# EAGLE library part MSP430F (library Nick'sEagle)
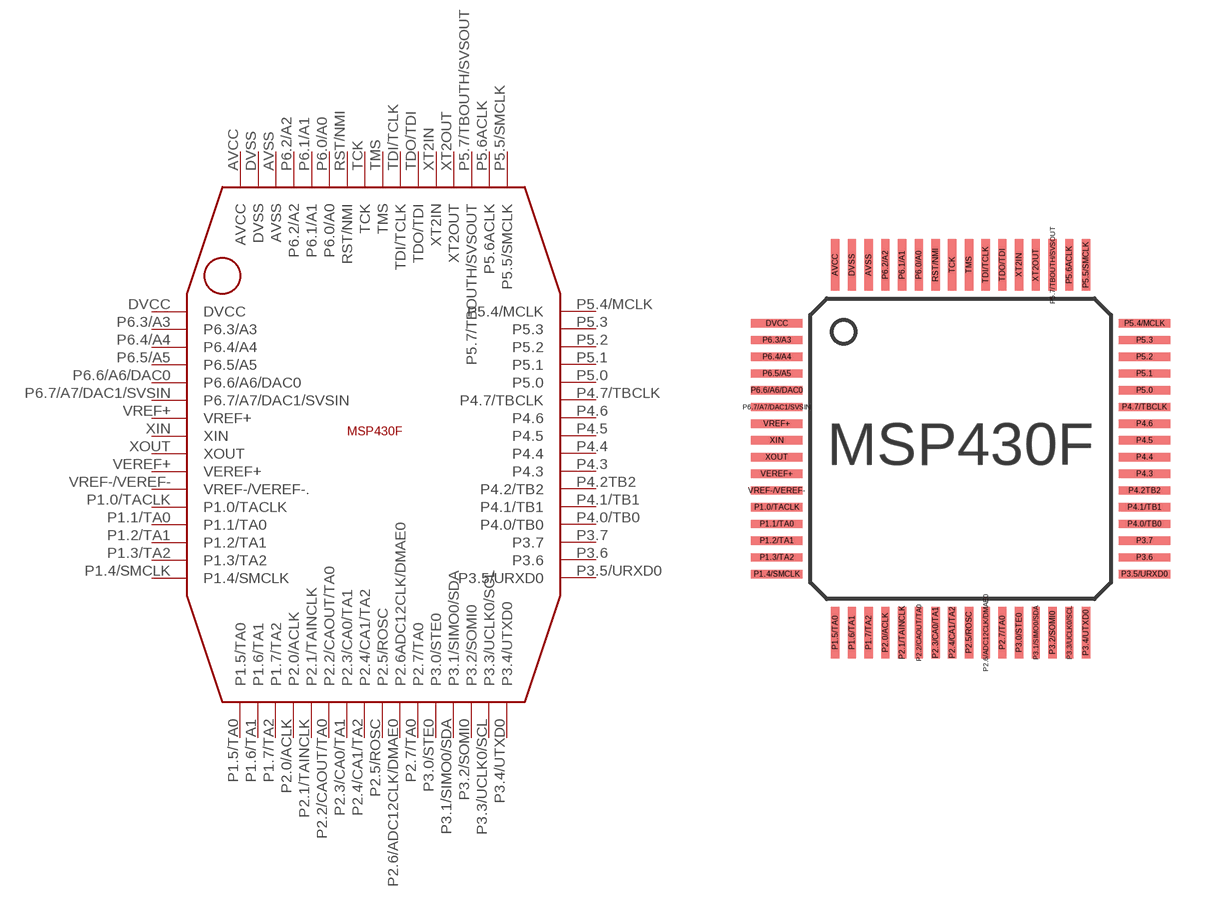
[diagram p2: symbol with the pads of MSP430F; footprint MSP430F]

Designator prefix -

## MSP430F  [MSP430F]
AVCC  AVCC
AVSS  AVSS
DVCC  DVCC
DVSS  DVSS
P1.0/TACLK  P1.0/TACLK
P1.1/TA0  P1.1/TA0
P1.2/TA1  P1.2/TA1
P1.3/TA2  P1.3/TA2
P1.4/SMCLK  P1.4/SMCLK
P1.5/TA0  P1.5/TA0
P1.6/TA1  P1.6/TA1
P1.7/TA2  P1.7/TA2
P2.0/ACLK  P2.0/ACLK
P2.1/TAINCLK  P2.1/TAINCLK
P2.2/CAOUT/TA0  P2.2/CAOUT/TA0
P2.3/CA0/TA1  P2.3/CA0/TA1
P2.4/CA1/TA2  P2.4/CA1/TA2
P2.5/ROSC  P2.5/ROSC
P2.6/ADC12CLK/DMAE0  P2.6ADC12CLK/DMAE0
P2.7/TA0  P2.7/TA0
P3.0/STE0  P3.0/STE0
P3.1/SIMO0/SDA  P3.1/SIMO0/SDA
P3.2/SOMI0  P3.2/SOMI0
P3.3/UCLK0/SCL  P3.3/UCLK0/SCL
P3.4/UTXD0  P3.4/UTXD0
P3.5/URXD0  P3.5/URXD0
P3.6  P3.6
P3.7  P3.7
P4.0/TB0  P4.0/TB0
P4.1/TB1  P4.1/TB1
P4.2TB2  P4.2/TB2
P4.3  P4.3
P4.4  P4.4
P4.5  P4.5
P4.6  P4.6
P4.7/TBCLK  P4.7/TBCLK
P5.0  P5.0
P5.1  P5.1
P5.2  P5.2
P5.3  P5.3
P5.4/MCLK  P5.4/MCLK
P5.5/SMCLK  P5.5/SMCLK
P5.6ACLK  P5.6ACLK
P5.7/TBOUTH/SVSOUT  P5.7/TBOUTH/SVSOUT
P6.0/A0  P6.0/A0
P6.1/A1  P6.1/A1
P6.2/A2  P6.2/A2
P6.3/A3  P6.3/A3
P6.4/A4  P6.4/A4
P6.5/A5  P6.5/A5
P6.6/A6/DAC0  P6.6/A6/DAC0
P6.7/A7/DAC1/SVSIN  P6.7/A7/DAC1/SVSIN
RST/NMI  RST/NMI
TCK  TCK
TDI/TCLK  TDI/TCLK
TDO/TDI  TDO/TDI
TMS  TMS
VEREF+  VEREF+
VREF+  VREF+
VREF-/VEREF-  VREF-/VEREF-.
XIN  XIN
XOUT  XOUT
XT2IN  XT2IN
XT2OUT  XT2OUT

## Footprint MSP430F (pad centres in mm)
smd 0.25 x 1.55: AVCC -3.75,5.5; AVSS -2.75,5.5; DVSS -3.25,5.5; P1.5/TA0 -3.75,-5.5; P1.6/TA1 -3.25,-5.5; P1.7/TA2 -2.75,-5.5; P2.0/ACLK -2.25,-5.5; P2.1/TAINCLK -1.75,-5.5; P2.2/CAOUT/TA0 -1.25,-5.5; P2.3/CA0/TA1 -0.75,-5.5; P2.4/CA1/TA2 -0.25,-5.5; P2.5/ROSC 0.25,-5.5; P2.6/ADC12CLK/DMAE0 0.75,-5.5; P2.7/TA0 1.25,-5.5; P3.0/STE0 1.75,-5.5; P3.1/SIMO0/SDA 2.25,-5.5; P3.2/SOMI0 2.75,-5.5; P3.3/UCLK0/SCL 3.25,-5.5; P3.4/UTXD0 3.75,-5.5; P5.5/SMCLK 3.75,5.5; P5.6ACLK 3.25,5.5; P5.7/TBOUTH/SVSOUT 2.75,5.5; P6.0/A0 -1.25,5.5; P6.1/A1 -1.75,5.5; P6.2/A2 -2.25,5.5; RST/NMI -0.75,5.5; TCK -0.25,5.5; TDI/TCLK 0.75,5.5; TDO/TDI 1.25,5.5; TMS 0.25,5.5; XT2IN 1.75,5.5; XT2OUT 2.25,5.5
smd 1.55 x 0.25: DVCC -5.5,3.75; P1.0/TACLK -5.5,-1.75; P1.1/TA0 -5.5,-2.25; P1.2/TA1 -5.5,-2.75; P1.3/TA2 -5.5,-3.25; P1.4/SMCLK -5.5,-3.75; P3.5/URXD0 5.5,-3.75; P3.6 5.5,-3.25; P3.7 5.5,-2.75; P4.0/TB0 5.5,-2.25; P4.1/TB1 5.5,-1.75; P4.2TB2 5.5,-1.25; P4.3 5.5,-0.75; P4.4 5.5,-0.25; P4.5 5.5,0.25; P4.6 5.5,0.75; P4.7/TBCLK 5.5,1.25; P5.0 5.5,1.75; P5.1 5.5,2.25; P5.2 5.5,2.75; P5.3 5.5,3.25; P5.4/MCLK 5.5,3.75; P6.3/A3 -5.5,3.25; P6.4/A4 -5.5,2.75; P6.5/A5 -5.5,2.25; P6.6/A6/DAC0 -5.5,1.75; P6.7/A7/DAC1/SVSIN -5.5,1.25; VEREF+ -5.5,-0.75; VREF+ -5.5,0.75; VREF-/VEREF- -5.5,-1.25; XIN -5.5,0.25; XOUT -5.5,-0.25